# Altium schematic symbol library M12_D_4PIN_FEMALE.SchLib: 1 symbol
Pins are listed as number, name and electrical type; pins without a type are passive.

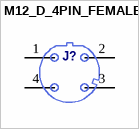
[diagram p0: symbol M12_D_4PIN_FEMALE]

## M12_D_4PIN_FEMALE
designator J?  (value not drawn)
pins: 1, 2, 3, 4